# Altium schematic symbol library 5 pins header.SchLib: 1 symbol
Pins are listed as number, name and electrical type; pins without a type are passive.

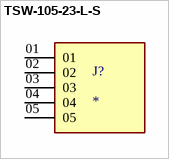
[diagram p0: symbol TSW-105-23-L-S]

## TSW-105-23-L-S
designator J?
Connector Header Through Hole 5 position 0.100 (2.54mm); MF: Samtec; MP: TSW-105-23-L-S; Package: None; Value: *; SnapEDA_Link: https://www.snapeda.com/parts/TSW-105-23-L-S/Samtec/view-part/?ref=snap; Check_prices: https://www.snapeda.com/parts/TSW-105-23-L-S/Samtec/view-part/?ref=eda; Purchase-URL: https://pricing.snapeda.com/search/part/TSW-105-23-L-S/?ref=eda; Digi-Key_Part_Number: SAM1071-05-ND
footprint SAMTEC_TSW-105-23-L-S
pins: 01, 02, 03, 04, 05